# Altium schematic symbol library Z84C00-4EC.SchLib: 1 symbol
Pins are listed as number, name and electrical type; pins without a type are passive.

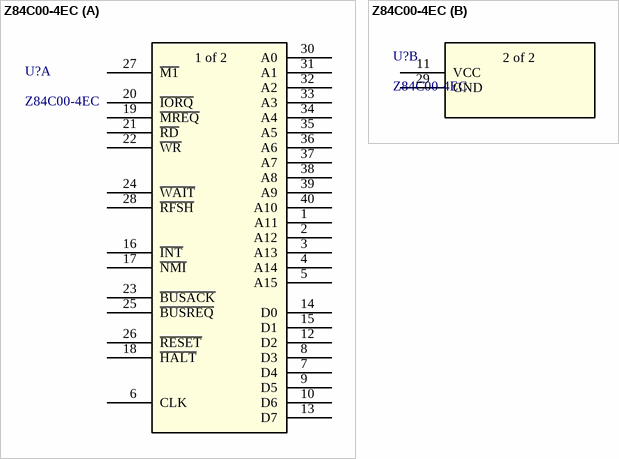
[diagram p0: symbol Z84C00-4EC]

## Z84C00-4EC
designator U?
No Description Available; Manufacturer_Name: Littelfuse Inc; Copyright: Copyright (C) 2025 Ultra Librarian. All rights reserved.; Manufacturer_Part_Number: Z84C00-4EC; RefDes: RefDes; Type: Type
footprint DIP40_600_ZIL
part A pins: 1 A11, 2 A12, 3 A13, 4 A14, 5 A15, 6 CLK, 7 D4, 8 D3, 9 D5, 10 D6, 12 D2, 13 D7, 14 D0, 15 D1, 16 ~{INT}, 17 ~{NMI}, 18 ~{HALT}, 19 ~{MREQ}, 20 ~{IORQ}, 21 ~{RD}, 22 ~{WR}, 23 ~{BUSACK}, 24 ~{WAIT}, 25 ~{BUSREQ}, 26 ~{RESET}, 27 ~{M1}, 28 ~{RFSH}, 30 A0, 31 A1, 32 A2, 33 A3, 34 A4, 35 A5, 36 A6, 37 A7, 38 A8, 39 A9, 40 A10
part B pins: 11 VCC, 29 GND
part A text: 1 of 2
part B text: 2 of 2